# Altium footprint library ALTAIR_PD_Relays.PcbLib: 1 footprints
Each footprint in its own frame and in the unit in brackets; x right, y up, seen from the top. Pads: shape width x height; smd on the part's side, far side on the other; paste and mask are expansions set on the pad; w line width, h text height; cw(c..) or ccw(c..) is an arc to the next point about the centre after c.
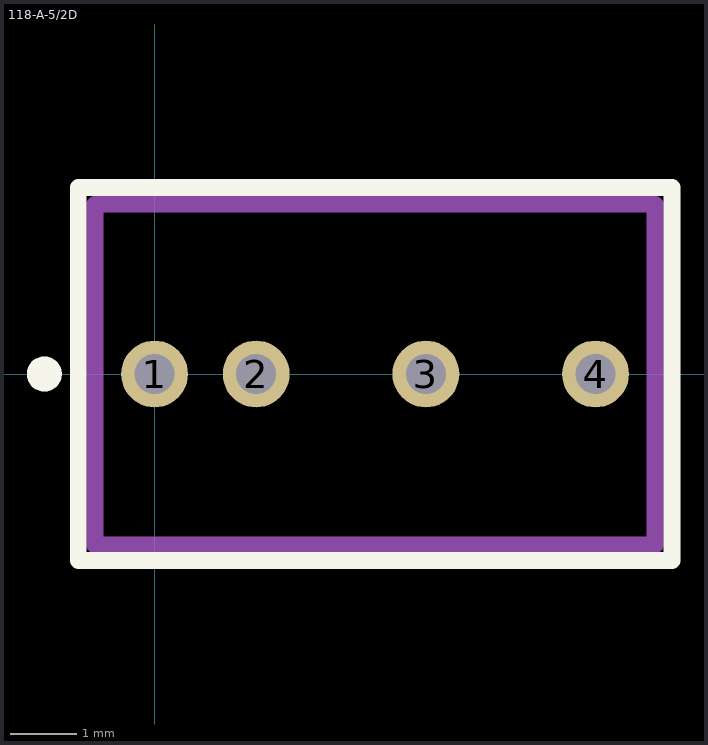
[diagram p0: the footprint, top view; thin cyan lines are the x and y axes]

## 118-A-5/2D [mm]
pads (4):
  round 1 hole 0.6: 1(0,0) 2(1.52,0) 3(4.06,0) 4(6.6,0)
Top Overlay:
  circle w0.27: c-1.651,0 r0.127
  lines w0.254: -1.143,-2.794 -1.143,2.794 7.747,2.794 7.747,-2.794 -1.143,-2.794
Mechanical 1:
  lines w0.25: -0.889,-2.56 7.491,-2.56 ; -0.889,2.54 7.491,2.54
  lines w0.254: -0.889,-2.56 -0.889,2.54 ; 7.491,-2.56 7.491,2.54
3D body "118-1-A.STEP": height 14.73, standoff -3.68, extent -0.763,-2.4 7.367,2.4